# EAGLE library part DS1307Z+ (library DS1307Z_)
http://octopart.com/ds1307z%2B-maxim+integrated-153599
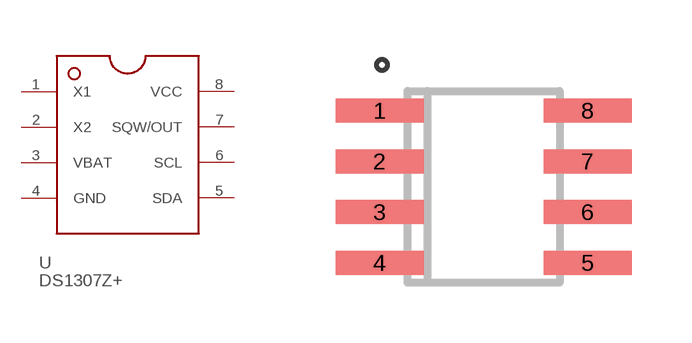
[diagram p0: symbol with the pads of SO08; footprint SO08]

Designator prefix U

## DS1307Z+ (Availability: Good; Description: RTC circuit%3B I2C%3B NV SRAM%3B 56B%3B 4.5%C3%B75.5VDC%3B SO8; MF: Maxim Integrated; MP: DS1307Z+; Package: SOIC-8 Maxim Integrated; Price: 2.50 USD)  [SO08]
1  X1  in
2  X2  out
3  VBAT  pwr
4  GND  pas
5  SDA
6  SCL  in
7  SQW/OUT  out
8  VCC  pwr

## Footprint SO08 (pad centres in mm)
smd 2.2 x 0.6: 1 -2.6,1.905; 2 -2.6,0.635; 3 -2.6,-0.635; 4 -2.6,-1.905; 5 2.6,-1.905; 6 2.6,-0.635; 7 2.6,0.635; 8 2.6,1.905